# EAGLE library part ATTINY4313 (library NU STEM)
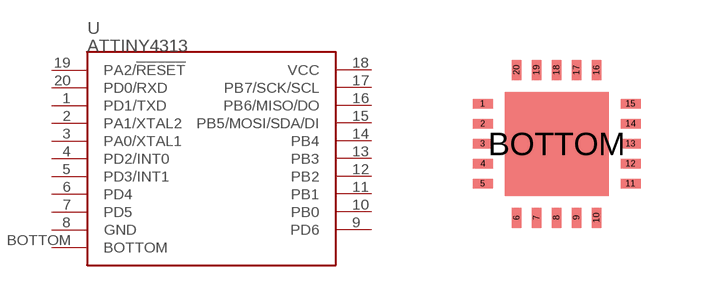
[diagram p1: symbol with the pads of MLF-20; footprint MLF-20]

Designator prefix -

## ATTINY4313  [MLF-20]
1  PD1/TXD
2  PA1/XTAL2
3  PA0/XTAL1
4  PD2/INT0
5  PD3/INT1
6  PD4
7  PD5
8  GND
9  PD6
10  PB0
11  PB1
12  PB2
13  PB3
14  PB4
15  PB5/MOSI/SDA/DI
16  PB6/MISO/DO
17  PB7/SCK/SCL
18  VCC
19  PA2/!RESET
20  PD0/RXD
BOTTOM  BOTTOM

## Footprint MLF-20 (pad centres in mm)
smd 0.5 x 0.23: 1 -1.85,1; 2 -1.85,0.5; 3 -1.85,0; 4 -1.85,-0.5; 5 -1.85,-1; 11 1.85,-1; 12 1.85,-0.5; 13 1.85,0; 14 1.85,0.5; 15 1.85,1
smd 0.23 x 0.5: 6 -1,-1.85; 7 -0.5,-1.85; 8 0,-1.85; 9 0.5,-1.85; 10 1,-1.85; 16 1,1.85; 17 0.5,1.85; 18 0,1.85; 19 -0.5,1.85; 20 -1,1.85
smd 2.6 x 2.6: BOTTOM 0,0